# Altium footprint library Flight_Controller_Board_Design.PcbLib: 10 footprints
Each footprint in its own frame and in the unit in brackets; x right, y up, seen from the top. Pads: shape width x height; smd on the part's side, far side on the other; paste and mask are expansions set on the pad; w line width, h text height; cw(c..) or ccw(c..) is an arc to the next point about the centre after c.
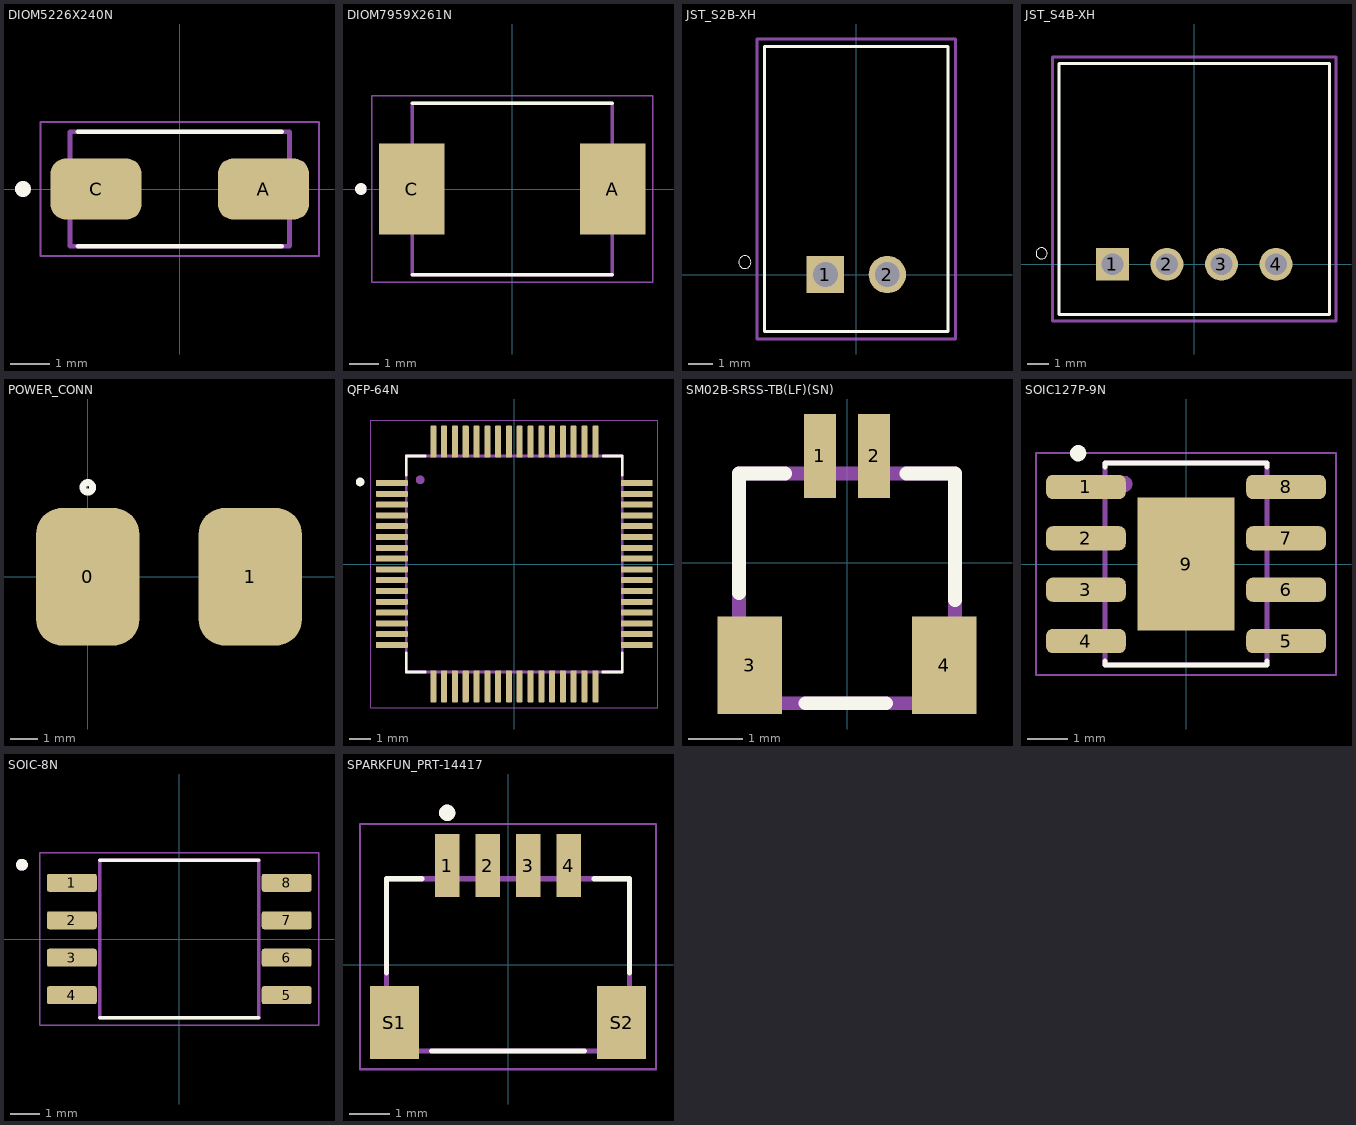
[diagram p0: the footprints below, top view; thin cyan lines are the x and y axes]

## DIOM5226X240N [mm]
pads (2):
  rrect50% 2.33x1.55 smd: A(2.135,0) C(-2.135,0)
Top Overlay:
  circle w0.2: c-4,0 r0.1
  lines w0.127: -2.6,-1.46 2.6,-1.46 ; -2.6,1.46 2.6,1.46
Mechanical 13:
  circle w0.2: c-4,0 r0.1
  lines w0.127: -2.8,-1.46 -2.8,1.46 2.8,1.46 2.8,-1.46 -2.8,-1.46
Mechanical 15:
  lines w0.05: -3.55,-1.71 -3.55,1.71 3.55,1.71 3.55,-1.71 -3.55,-1.71
3D body "B340A-13-F.STEP": height 2.4, standoff 0, extent -2.597,-1.303 2.598,1.303

## DIOM7959X261N [mm]
height 2.61
pads (2):
  rect 2.25x3.12 smd: A(3.455,0) C(-3.455,0)
Top Overlay:
  circle w0.2: c-5.2,0 r0.1
  lines w0.127: -3.437,-2.95 3.437,-2.95 ; -3.437,2.95 3.437,2.95
Mechanical 13:
  circle w0.2: c-5.2,0 r0.1
  lines w0.127: -3.437,-2.95 3.437,-2.95 3.437,2.95 -3.437,2.95 -3.437,-2.95
Mechanical 15:
  lines w0.05: -4.83,-3.2 4.83,-3.2 4.83,3.2 -4.83,3.2 -4.83,-3.2
3D body "step_temp.STEP": height 1.2, standoff -1.41, extent -3.975,-2.95 3.975,2.95

## JST_S2B-XH [mm]
pads (2):
  rect 1.508x1.508 / inner round 1.508 / far side rect 1.508x1.508 hole 1: 1(-1.25,0)
  round 1.508 hole 1: 2(1.25,0)
Top Overlay:
  circle w0: c-4.5,0.5 r0.254
  lines w0.127: -3.7,-2.3 3.7,-2.3 3.7,9.2 -3.7,9.2 -3.7,-2.3
Mechanical 15:
  lines w0.127: -4,-2.6 4,-2.6 4,9.5 -4,9.5 -4,-2.6
3D body "step_temp.STEP": height 6.1, standoff -3.4, extent -3.734,-2.388 3.666,9.112

## JST_S4B-XH [mm]
pads (4):
  rect 1.508x1.508 / inner round 1.508 / far side rect 1.508x1.508 hole 1: 1(-3.75,0)
  round 1.508 hole 1: 2(-1.25,0) 3(1.25,0) 4(3.75,0)
Top Overlay:
  circle w0: c-7,0.5 r0.254
  lines w0.127: -6.2,-2.3 -6.2,9.2 6.2,9.2 6.2,-2.3 -6.2,-2.3
Mechanical 15:
  lines w0.127: -6.5,-2.6 -6.5,9.5 6.5,9.5 6.5,-2.6 -6.5,-2.6
3D body "step_temp.STEP": height 6.15, standoff -3.4, extent -6.2,-2.194 6.2,9.306

## POWER_CONN [mm] "Power Connector"
pads (2):
  rrect50% 3.81x5.08 smd: 0(0,0) 1(6,0)
Top Overlay:
  circle w0.254: c0,3.302 r0.18

## QFP-64N [mm]
pads (64):
  rrect25% 1.47x0.28 smd: 1(-5.67,3.75) 2(-5.67,3.25) 3(-5.67,2.75) 4(-5.67,2.25) 5(-5.67,1.75) 6(-5.67,1.25) 7(-5.67,0.75) 8(-5.67,0.25) 9(-5.67,-0.25) 10(-5.67,-0.75) 11(-5.67,-1.25) 12(-5.67,-1.75) 13(-5.67,-2.25) 14(-5.67,-2.75) 15(-5.67,-3.25) 16(-5.67,-3.75) 33(5.67,-3.75) 34(5.67,-3.25) 35(5.67,-2.75) 36(5.67,-2.25) 37(5.67,-1.75) 38(5.67,-1.25) 39(5.67,-0.75) 40(5.67,-0.25) 41(5.67,0.25) 42(5.67,0.75) 43(5.67,1.25) 44(5.67,1.75) 45(5.67,2.25) 46(5.67,2.75) 47(5.67,3.25) 48(5.67,3.75)
  rrect25% 0.28x1.47 smd: 17(-3.75,-5.67) 18(-3.25,-5.67) 19(-2.75,-5.67) 20(-2.25,-5.67) 21(-1.75,-5.67) 22(-1.25,-5.67) 23(-0.75,-5.67) 24(-0.25,-5.67) 25(0.25,-5.67) 26(0.75,-5.67) 27(1.25,-5.67) 28(1.75,-5.67) 29(2.25,-5.67) 30(2.75,-5.67) 31(3.25,-5.67) 32(3.75,-5.67) 49(3.75,5.67) 50(3.25,5.67) 51(2.75,5.67) 52(2.25,5.67) 53(1.75,5.67) 54(1.25,5.67) 55(0.75,5.67) 56(0.25,5.67) 57(-0.25,5.67) 58(-0.75,5.67) 59(-1.25,5.67) 60(-1.75,5.67) 61(-2.25,5.67) 62(-2.75,5.67) 63(-3.25,5.67) 64(-3.75,5.67)
Top Overlay:
  circle w0.2: c-7.14,3.8 r0.1
  lines w0.127: -5,-4.125 -5,-5 -4.125,-5 ; -5,4.125 -5,5 -4.125,5 ; 4.092,-5 5,-5 5,-4.125 ; 4.125,5 5,5 5,4.125
Mechanical 13:
  circle w0.2: c-4.36,3.9 r0.1
  lines w0.127: -5,-5 5,-5 5,5 -5,5 -5,-5
Mechanical 15:
  lines w0.05: -6.655,-6.655 6.655,-6.655 6.655,6.655 -6.655,6.655 -6.655,-6.655
3D body "STM32F405RGT6.STEP": height 1.6, standoff 0, extent -6,-5.969 6,6.031

## SM02B-SRSS-TB(LF)(SN) [mm]
pads (4):
  rect 0.6x1.55 smd: 1(-0.5,1.975) 2(0.5,1.975)
  rect 1.2x1.8 smd: 3(-1.8,-1.9) 4(1.8,-1.9)
Top Overlay:
  lines w0.254: -2,-0.563 -2,1.65 -1.145,1.65 ; -0.767,-2.6 0.722,-2.6 ; 1.1,1.65 2,1.65 2,-0.697
Mechanical 13:
  lines w0.254: -2,-2.6 -2,1.65 2,1.65 2,-2.6 -2,-2.6
3D body "SM02B-SRSS-TB-LF--SN---3DModel-STEP-56544.STEP": height 2.95, standoff 0, extent -2,-2.475 2,2.475

## SOIC127P-9N [mm]
pads (9):
  rrect54% 1.97x0.6 smd: 1(-2.475,1.905) 2(-2.475,0.635) 3(-2.475,-0.635) 4(-2.475,-1.905) 5(2.475,-1.905) 6(2.475,-0.635) 7(2.475,0.635) 8(2.475,1.905)
  rect 2.41x3.3 smd paste-3: 9(0,0)
Top Overlay:
  circle w0.2: c-2.667,2.74 r0.1
  lines w0.127: -2,-2.4 -2,-2.5 2,-2.5 2,-2.4 ; -2,2.4 -2,2.5 2,2.5 2,2.4
Top Paste:
  region: 0.935,0.135 0.135,0.135 0.135,1.375 0.935,1.375
  region: 0.935,-1.377 0.135,-1.377 0.135,-0.135 0.935,-0.135
  region: -0.135,-1.378 -0.937,-1.378 -0.937,-0.135 -0.135,-0.135
  region: -0.135,0.135 -0.937,0.135 -0.937,1.375 -0.135,1.375
Mechanical 13:
  circle w0.2: c-1.524,1.978 r0.1
  lines w0.127: -2,-2.5 2,-2.5 2,2.5 -2,2.5 -2,-2.5
Mechanical 15:
  lines w0.05: -3.71,-2.75 3.71,-2.75 3.71,2.75 -3.71,2.75 -3.71,-2.75
3D body "step_temp.STEP": height 1.7, standoff 0, extent -2.997,-2.451 2.997,2.451

## SOIC-8N [mm]
pads (8):
  rrect25% 1.69x0.61 smd: 1(-3.64,1.905) 2(-3.64,0.635) 3(-3.64,-0.635) 4(-3.64,-1.905) 5(3.64,-1.905) 6(3.64,-0.635) 7(3.64,0.635) 8(3.64,1.905)
Top Overlay:
  circle w0.2: c-5.33,2.515 r0.1
  lines w0.127: -2.69,-2.665 2.69,-2.665 ; -2.69,2.665 2.69,2.665
Mechanical 13:
  circle w0.2: c-5.33,2.515 r0.1
  lines w0.127: -2.69,-2.665 -2.69,2.665 2.69,2.665 2.69,-2.665 -2.69,-2.665
Mechanical 15:
  lines w0.05: -4.735,-2.915 -4.735,2.915 4.735,2.915 4.735,-2.915 -4.735,-2.915
3D body "25LC1024-I_SM.STEP": height 2.03, standoff 0, extent -3.97,-2.667 3.97,2.593

## SPARKFUN_PRT-14417 [mm]
height 2.9
pads (6):
  rect 0.6x1.55 smd: 1(-1.5,2.45) 2(-0.5,2.45) 3(0.5,2.45) 4(1.5,2.45)
  rect 1.2x1.8 smd: S1(-2.8,-1.425) S2(2.8,-1.425)
Top Overlay:
  circle w0.2: c-1.5,3.75 r0.1
  lines w0.127: -3,-0.205 -3,2.125 -2.12,2.125 ; -1.88,-2.125 1.88,-2.125 ; 2.12,2.125 3,2.125 3,-0.205
Mechanical 13:
  circle w0.2: c-1.5,3.75 r0.1
  lines w0.127: -3,-2.125 3,-2.125 3,2.125 -3,2.125 -3,-2.125
Mechanical 15:
  lines w0.05: -3.65,-2.575 -3.65,3.475 3.65,3.475 3.65,-2.575 -3.65,-2.575
3D body "step_temp.STEP": height 3.25, standoff 0.3, extent -3.076,-2.21 2.924,2.74